# EAGLE library part USB-MICRO (library usb conn)
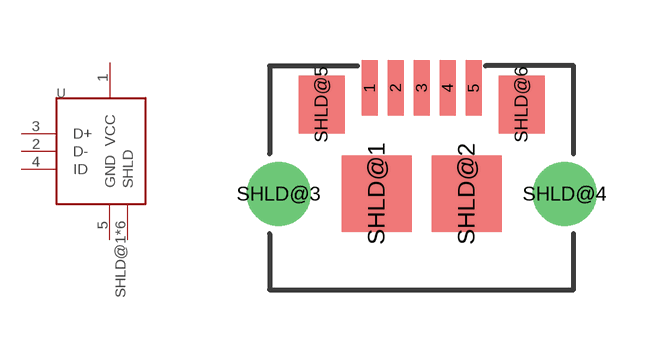
[diagram p1: symbol with the pads of MICRO-USB; footprint MICRO-USB]

Designator prefix -

## USB-MICRO  [MICRO-USB]
1  VCC
2  D-
3  D+
4  ID
5  GND
SHLD@1  SHLD
SHLD@2  SHLD
SHLD@3  SHLD
SHLD@4  SHLD
SHLD@5  SHLD
SHLD@6  SHLD

## Footprint MICRO-USB (pad centres in mm)
smd 0.4 x 1.4: 1 -1.3,2.65; 2 -0.65,2.65; 3 0,2.65; 4 0.65,2.65; 5 1.3,2.65
smd 1.75 x 1.9: SHLD@1 -1.125,0; SHLD@2 1.125,0
drill 0.95 pad 1.6: SHLD@3 -3.575,0; SHLD@4 3.575,0
smd 1.15 x 1.45: SHLD@5 -2.5,2.23; SHLD@6 2.5,2.23